# Altium schematic symbol library 1921VK028.SchLib: 1 symbol
Pins are listed as number, name and electrical type; pins without a type are passive.

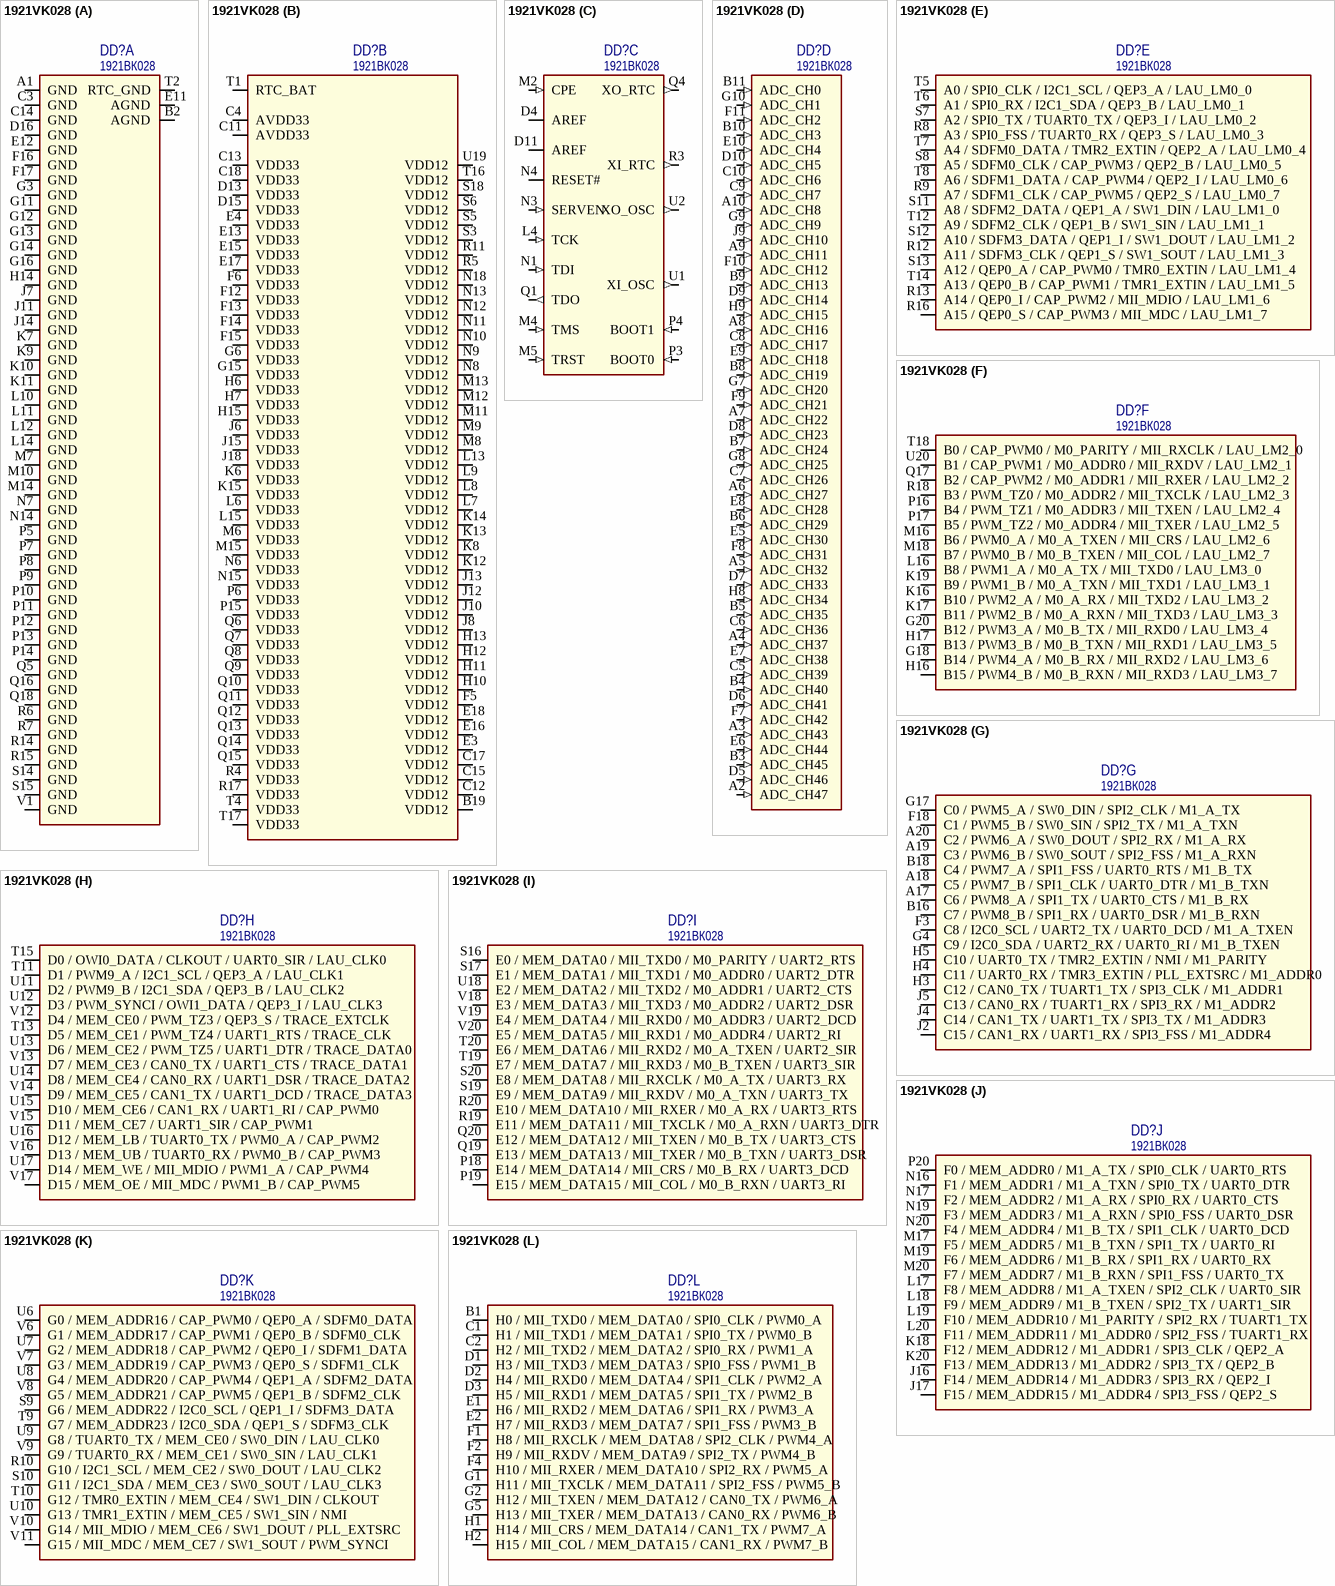
[diagram p0: symbol 1921VK028]

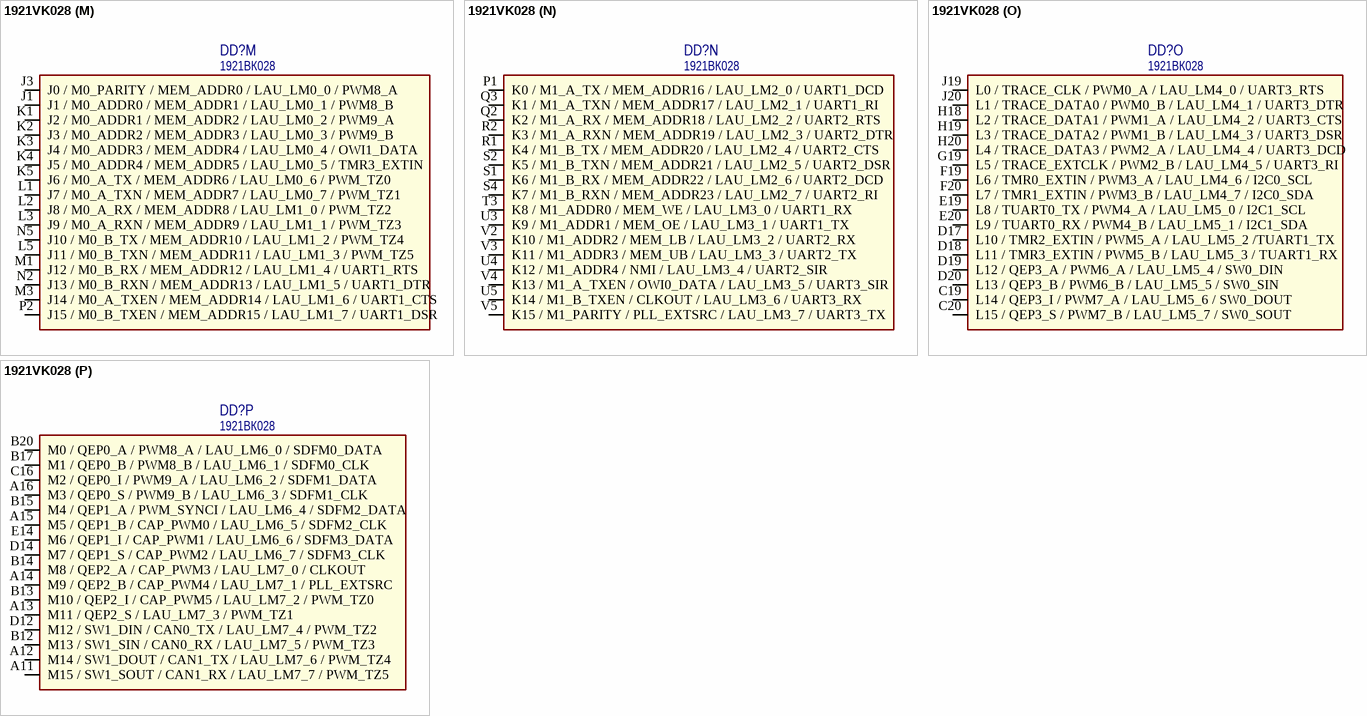
[diagram p1: symbol 1921VK028]

## 1921VK028
designator DD?  Наименование: 1921ВК028  (hidden comment: 1921VK028)
Микроконтроллер; Потребление, Вт: 1.0; Назначение: Микроконтроллер; ComponentLink1Description: Руководство пользователя; ComponentLink1URL: https://niiet.ru/wp-content/uploads/2023/02/РП-1921ВК028.pdf
footprint 8115.400-1
part A pins: A1 GND (power) "Земля", B2 AGND (power) "Аналоговая земля", C3 GND (power) "Земля", C14 GND (power) "Земля", D16 GND (power) "Земля", E11 AGND (power) "Аналоговая земля", E12 GND (power) "Земля", F16 GND (power) "Земля", F17 GND (power) "Земля", G3 GND (power) "Земля", G11 GND (power) "Земля", G12 GND (power) "Земля", G13 GND (power) "Земля", G14 GND (power) "Земля", G16 GND (power) "Земля", H14 GND (power) "Земля", J7 GND (power) "Земля", J11 GND (power) "Земля", J14 GND (power) "Земля", K7 GND (power) "Земля", K9 GND (power) "Земля", K10 GND (power) "Земля", K11 GND (power) "Земля", L10 GND (power) "Земля", L11 GND (power) "Земля", L12 GND (power) "Земля", L14 GND (power) "Земля", M7 GND (power) "Земля", M10 GND (power) "Земля", M14 GND (power) "Земля", N7 GND (power) "Земля", N14 GND (power) "Земля", P5 GND (power) "Земля", P7 GND (power) "Земля", P8 GND (power) "Земля", P9 GND (power) "Земля", P10 GND (power) "Земля", P11 GND (power) "Земля", P12 GND (power) "Земля", P13 GND (power) "Земля", P14 GND (power) "Земля", Q5 GND (power) "Земля", Q16 GND (power) "Земля", Q18 GND (power) "Земля", R6 GND (power) "Земля", R7 GND (power) "Земля", R14 GND (power) "Земля", R15 GND (power) "Земля", S14 GND (power) "Земля", S15 GND (power) "Земля", T2 RTC_GND (power) "Земля RTC", V1 GND (power) "Земля"
part B pins: B19 VDD12 (power) "Питание ядра 1.2В", C4 AVDD33 (power) "Аналоговое питание 3,3 В", C11 AVDD33 (power) "Аналоговое питание 3,3 В", C12 VDD12 (power) "Питание ядра 1.2В", C13 VDD33 (power) "Питание буферов ввода-вывода 3,3В", C15 VDD12 (power) "Питание ядра 1.2В", C17 VDD12 (power) "Питание ядра 1.2В", C18 VDD33 (power) "Питание буферов ввода-вывода 3,3В", D13 VDD33 (power) "Питание буферов ввода-вывода 3,3В", D15 VDD33 (power) "Питание буферов ввода-вывода 3,3В", E3 VDD12 (power) "Питание ядра 1.2В", E4 VDD33 (power) "Питание буферов ввода-вывода 3,3В", E13 VDD33 (power) "Питание буферов ввода-вывода 3,3В", E15 VDD33 (power) "Питание буферов ввода-вывода 3,3В", E16 VDD12 (power) "Питание ядра 1.2В", E17 VDD33 (power) "Питание буферов ввода-вывода 3,3В", E18 VDD12 (power) "Питание ядра 1.2В", F5 VDD12 (power) "Питание ядра 1.2В", F6 VDD33 (power) "Питание буферов ввода-вывода 3,3В", F12 VDD33 (power) "Питание буферов ввода-вывода 3,3В", F13 VDD33 (power) "Питание буферов ввода-вывода 3,3В", F14 VDD33 (power) "Питание буферов ввода-вывода 3,3В", F15 VDD33 (power) "Питание буферов ввода-вывода 3,3В", G6 VDD33 (power) "Питание буферов ввода-вывода 3,3В", G15 VDD33 (power) "Питание буферов ввода-вывода 3,3В", H6 VDD33 (power) "Питание буферов ввода-вывода 3,3В", H7 VDD33 (power) "Питание буферов ввода-вывода 3,3В", H10 VDD12 (power) "Питание ядра 1.2В", H11 VDD12 (power) "Питание ядра 1.2В", H12 VDD12 (power) "Питание ядра 1.2В", H13 VDD12 (power) "Питание ядра 1.2В", H15 VDD33 (power) "Питание буферов ввода-вывода 3,3В", J6 VDD33 (power) "Питание буферов ввода-вывода 3,3В", J8 VDD12 (power) "Питание ядра 1.2В", J10 VDD12 (power) "Питание ядра 1.2В", J12 VDD12 (power) "Питание ядра 1.2В", J13 VDD12 (power) "Питание ядра 1.2В", J15 VDD33 (power) "Питание буферов ввода-вывода 3,3В", J18 VDD33 (power) "Питание буферов ввода-вывода 3,3В", K6 VDD33 (power) "Питание буферов ввода-вывода 3,3В", K8 VDD12 (power) "Питание ядра 1.2В", K12 VDD12 (power) "Питание ядра 1.2В", K13 VDD12 (power) "Питание ядра 1.2В", K14 VDD12 (power) "Питание ядра 1.2В", K15 VDD33 (power) "Питание буферов ввода-вывода 3,3В", L6 VDD33 (power) "Питание буферов ввода-вывода 3,3В", L7 VDD12 (power) "Питание ядра 1.2В", L8 VDD12 (power) "Питание ядра 1.2В", L9 VDD12 (power) "Питание ядра 1.2В", L13 VDD12 (power) "Питание ядра 1.2В", L15 VDD33 (power) "Питание буферов ввода-вывода 3,3В", M6 VDD33 (power) "Питание буферов ввода-вывода 3,3В", M8 VDD12 (power) "Питание ядра 1.2В", M9 VDD12 (power) "Питание ядра 1.2В", M11 VDD12 (power) "Питание ядра 1.2В", M12 VDD12 (power) "Питание ядра 1.2В", M13 VDD12 (power) "Питание ядра 1.2В", M15 VDD33 (power) "Питание буферов ввода-вывода 3,3В", N6 VDD33 (power) "Питание буферов ввода-вывода 3,3В", N8 VDD12 (power) "Питание ядра 1.2В", N9 VDD12 (power) "Питание ядра 1.2В", N10 VDD12 (power) "Питание ядра 1.2В", N11 VDD12 (power) "Питание ядра 1.2В", N12 VDD12 (power) "Питание ядра 1.2В", N13 VDD12 (power) "Питание ядра 1.2В", N15 VDD33 (power) "Питание буферов ввода-вывода 3,3В", N18 VDD12 (power) "Питание ядра 1.2В", P6 VDD33 (power) "Питание буферов ввода-вывода 3,3В", P15 VDD33 (power) "Питание буферов ввода-вывода 3,3В", Q6 VDD33 (power) "Питание буферов ввода-вывода 3,3В", Q7 VDD33 (power) "Питание буферов ввода-вывода 3,3В", Q8 VDD33 (power) "Питание буферов ввода-вывода 3,3В", Q9 VDD33 (power) "Питание буферов ввода-вывода 3,3В", Q10 VDD33 (power) "Питание буферов ввода-вывода 3,3В", Q11 VDD33 (power) "Питание буферов ввода-вывода 3,3В", Q12 VDD33 (power) "Питание буферов ввода-вывода 3,3В", Q13 VDD33 (power) "Питание буферов ввода-вывода 3,3В", Q14 VDD33 (power) "Питание буферов ввода-вывода 3,3В", Q15 VDD33 (power) "Питание буферов ввода-вывода 3,3В", R4 VDD33 (power) "Питание буферов ввода-вывода 3,3В", R5 VDD12 (power) "Питание ядра 1.2В", R11 VDD12 (power) "Питание ядра 1.2В", R17 VDD33 (power) "Питание буферов ввода-вывода 3,3В", S3 VDD12 (power) "Питание ядра 1.2В", S5 VDD12 (power) "Питание ядра 1.2В", S6 VDD12 (power) "Питание ядра 1.2В", S18 VDD12 (power) "Питание ядра 1.2В", T1 RTC_BAT (power) "Батарейное питание RTC", T4 VDD33 (power) "Питание буферов ввода-вывода 3,3В", T16 VDD12 (power) "Питание ядра 1.2В", T17 VDD33 (power) "Питание буферов ввода-вывода 3,3В", U19 VDD12 (power) "Питание ядра 1.2В"
part C pins: D4 AREF (io), D11 AREF (io), L4 TCK (in), M2 CPE (in), M4 TMS (in), M5 TRST (in), N1 TDI (in), N3 SERVEN (in), N4 RESET# (io), P3 BOOT0 (in), P4 BOOT1 (in), Q1 TDO (out), Q4 XO_RTC (out), R3 XI_RTC (out), U1 XI_OSC (out), U2 XO_OSC (out)
part D pins: A2 ADC_CH47 (in) "Вход АЦП3, канал 47", A3 ADC_CH43 (in) "Вход АЦП3, канал 43", A4 ADC_CH37 (in) "Вход АЦП3, канал 37", A5 ADC_CH32 (in) "Вход АЦП2, канал 32", A6 ADC_CH27 (in) "Вход АЦП2, канал 27", A7 ADC_CH22 (in) "Вход АЦП1, канал 22", A8 ADC_CH16 (in) "Вход АЦП1, канал 16", A9 ADC_CH11 (in) "Вход АЦП0, канал 11", A10 ADC_CH8 (in) "Вход АЦП0, канал 8", B3 ADC_CH45 (in) "Вход АЦП3, канал 45", B4 ADC_CH40 (in) "Вход АЦП3, канал 40", B5 ADC_CH35 (in) "Вход АЦП2, канал 35", B6 ADC_CH29 (in) "Вход АЦП2, канал 29", B7 ADC_CH24 (in) "Вход АЦП2, канал 24", B8 ADC_CH19 (in) "Вход АЦП1, канал 19", B9 ADC_CH13 (in) "Вход АЦП1, канал 13", B10 ADC_CH3 (in) "Вход АЦП0, канал 3", B11 ADC_CH0 (in) "Вход АЦП0, канал 0", C5 ADC_CH39 (in) "Вход АЦП3, канал 39", C6 ADC_CH36 (in) "Вход АЦП3, канал 36", C7 ADC_CH26 (in) "Вход АЦП2, канал 26", C8 ADC_CH17 (in) "Вход АЦП1, канал 17", C9 ADC_CH7 (in) "Вход АЦП0, канал 7", C10 ADC_CH6 (in) "Вход АЦП0, канал 6", D5 ADC_CH46 (in) "Вход АЦП3, канал 46", D6 ADC_CH41 (in) "Вход АЦП3, канал 41", D7 ADC_CH33 (in) "Вход АЦП2, канал 33", D8 ADC_CH23 (in) "Вход АЦП1, канал 23", D9 ADC_CH14 (in) "Вход АЦП1, канал 14", D10 ADC_CH5 (in) "Вход АЦП0, канал 5", E5 ADC_CH30 (in) "Вход АЦП2, канал 30", E6 ADC_CH44 (in) "Вход АЦП3, канал 44", E7 ADC_CH38 (in) "Вход АЦП3, канал 38", E8 ADC_CH28 (in) "Вход АЦП2, канал 28", E9 ADC_CH18 (in) "Вход АЦП1, канал 18", E10 ADC_CH4 (in) "Вход АЦП0, канал 4", F7 ADC_CH42 (in) "Вход АЦП3, канал 42", F8 ADC_CH31 (in) "Вход АЦП2, канал 31", F9 ADC_CH21 (in) "Вход АЦП1, канал 21", F10 ADC_CH12 (in) "Вход АЦП1, канал 12", F11 ADC_CH2 (in) "Вход АЦП0, канал 2", G7 ADC_CH20 (in) "Вход АЦП1, канал 20", G8 ADC_CH25 (in) "Вход АЦП2, канал 25", G9 ADC_CH9 (in) "Вход АЦП0, канал 9", G10 ADC_CH1 (in) "Вход АЦП0, канал 1", H8 ADC_CH34 (in) "Вход АЦП2, канал 34", H9 ADC_CH15 (in) "Вход АЦП1, канал 15", J9 ADC_CH10 (in) "Вход АЦП0, канал 10"
part E pins: R8 A3 / SPI0_FSS / TUART0_RX / QEP3_S / LAU_LM0_3 (io), R9 A7 / SDFM1_CLK / CAP_PWM5 / QEP2_S / LAU_LM0_7 (io), R12 A11 / SDFM3_CLK / QEP1_S / SW1_SOUT / LAU_LM1_3 (io), R13 A14 / QEP0_I / CAP_PWM2 / MII_MDIO / LAU_LM1_6 (io), R16 A15 / QEP0_S / CAP_PWM3 / MII_MDC / LAU_LM1_7 (io), S7 A2 / SPI0_TX / TUART0_TX / QEP3_I / LAU_LM0_2 (io), S8 A5 / SDFM0_CLK / CAP_PWM3 / QEP2_B / LAU_LM0_5 (io), S11 A8 / SDFM2_DATA / QEP1_A / SW1_DIN / LAU_LM1_0 (io), S12 A10 / SDFM3_DATA / QEP1_I / SW1_DOUT / LAU_LM1_2 (io), S13 A12 / QEP0_A / CAP_PWM0 / TMR0_EXTIN / LAU_LM1_4 (io), T5 A0 / SPI0_CLK / I2C1_SCL / QEP3_A / LAU_LM0_0 (io), T6 A1 / SPI0_RX / I2C1_SDA / QEP3_B / LAU_LM0_1 (io), T7 A4 / SDFM0_DATA / TMR2_EXTIN / QEP2_A / LAU_LM0_4 (io), T8 A6 / SDFM1_DATA / CAP_PWM4 / QEP2_I / LAU_LM0_6 (io), T12 A9 / SDFM2_CLK / QEP1_B / SW1_SIN / LAU_LM1_1 (io), T14 A13 / QEP0_B / CAP_PWM1 / TMR1_EXTIN / LAU_LM1_5 (io)
part F pins: G18 B14 / PWM4_A / M0_B_RX / MII_RXD2 / LAU_LM3_6 (io), G20 B12 / PWM3_A / M0_B_TX / MII_RXD0 / LAU_LM3_4 (io), H16 B15 / PWM4_B / M0_B_RXN / MII_RXD3 / LAU_LM3_7 (io), H17 B13 / PWM3_B / M0_B_TXN / MII_RXD1 / LAU_LM3_5 (io), K16 B10 / PWM2_A / M0_A_RX / MII_TXD2 / LAU_LM3_2 (io), K17 B11 / PWM2_B / M0_A_RXN / MII_TXD3 / LAU_LM3_3 (io), K19 B9 / PWM1_B / M0_A_TXN / MII_TXD1 / LAU_LM3_1 (io), L16 B8 / PWM1_A / M0_A_TX / MII_TXD0 / LAU_LM3_0 (io), M16 B6 / PWM0_A / M0_A_TXEN / MII_CRS / LAU_LM2_6 (io), M18 B7 / PWM0_B / M0_B_TXEN / MII_COL / LAU_LM2_7 (io), P16 B4 / PWM_TZ1 / M0_ADDR3 / MII_TXEN / LAU_LM2_4 (io), P17 B5 / PWM_TZ2 / M0_ADDR4 / MII_TXER / LAU_LM2_5 (io), Q17 B2 / CAP_PWM2 / M0_ADDR1 / MII_RXER / LAU_LM2_2 (io), R18 B3 / PWM_TZ0 / M0_ADDR2 / MII_TXCLK / LAU_LM2_3 (io), T18 B0 / CAP_PWM0 / M0_PARITY / MII_RXCLK / LAU_LM2_0 (io), U20 B1 / CAP_PWM1 / M0_ADDR0 / MII_RXDV / LAU_LM2_1 (io)
part G pins: A17 C6 / PWM8_A / SPI1_TX / UART0_CTS / M1_B_RX (io), A18 C5 / PWM7_B / SPI1_CLK / UART0_DTR / M1_B_TXN (io), A19 C3 / PWM6_B / SW0_SOUT / SPI2_FSS / M1_A_RXN (io), A20 C2 / PWM6_A / SW0_DOUT / SPI2_RX / M1_A_RX (io), B16 C7 / PWM8_B / SPI1_RX / UART0_DSR / M1_B_RXN (io), B18 C4 / PWM7_A / SPI1_FSS / UART0_RTS / M1_B_TX (io), F3 C8 / I2C0_SCL / UART2_TX / UART0_DCD / M1_A_TXEN (io), F18 C1 / PWM5_B / SW0_SIN / SPI2_TX / M1_A_TXN (io), G4 C9 / I2C0_SDA / UART2_RX / UART0_RI / M1_B_TXEN (io), G17 C0 / PWM5_A / SW0_DIN / SPI2_CLK / M1_A_TX (io), H3 C12 / CAN0_TX / TUART1_TX / SPI3_CLK / M1_ADDR1 (io), H4 C11 / UART0_RX / TMR3_EXTIN / PLL_EXTSRC / M1_ADDR0 (io), H5 C10 / UART0_TX / TMR2_EXTIN / NMI / M1_PARITY (io), J2 C15 / CAN1_RX / UART1_RX / SPI3_FSS / M1_ADDR4 (io), J4 C14 / CAN1_TX / UART1_TX / SPI3_TX / M1_ADDR3 (io), J5 C13 / CAN0_RX / TUART1_RX / SPI3_RX / M1_ADDR2 (io)
part H pins: T11 D1 / PWM9_A / I2C1_SCL / QEP3_A / LAU_CLK1 (io), T13 D5 / MEM_CE1 / PWM_TZ4 / UART1_RTS / TRACE_CLK (io), T15 D0 / OWI0_DATA / CLKOUT / UART0_SIR / LAU_CLK0 (io), U11 D2 / PWM9_B / I2C1_SDA / QEP3_B / LAU_CLK2 (io), U12 D3 / PWM_SYNCI / OWI1_DATA / QEP3_I / LAU_CLK3 (io), U13 D6 / MEM_CE2 / PWM_TZ5 / UART1_DTR / TRACE_DATA0 (io), U14 D8 / MEM_CE4 / CAN0_RX / UART1_DSR / TRACE_DATA2 (io), U15 D10 / MEM_CE6 / CAN1_RX / UART1_RI / CAP_PWM0 (io), U16 D12 / MEM_LB / TUART0_TX / PWM0_A / CAP_PWM2 (io), U17 D14 / MEM_WE / MII_MDIO / PWM1_A / CAP_PWM4 (io), V12 D4 / MEM_CE0 / PWM_TZ3 / QEP3_S / TRACE_EXTCLK (io), V13 D7 / MEM_CE3 / CAN0_TX / UART1_CTS / TRACE_DATA1 (io), V14 D9 / MEM_CE5 / CAN1_TX / UART1_DCD / TRACE_DATA3 (io), V15 D11 / MEM_CE7 / UART1_SIR / CAP_PWM1 (io), V16 D13 / MEM_UB / TUART0_RX / PWM0_B / CAP_PWM3 (io), V17 D15 / MEM_OE / MII_MDC / PWM1_B / CAP_PWM5 (io)
part I pins: P18 E14 / MEM_DATA14 / MII_CRS / M0_B_RX / UART3_DCD (io), P19 E15 / MEM_DATA15 / MII_COL / M0_B_RXN / UART3_RI (io), Q19 E13 / MEM_DATA13 / MII_TXER / M0_B_TXN / UART3_DSR (io), Q20 E12 / MEM_DATA12 / MII_TXEN / M0_B_TX / UART3_CTS (io), R19 E11 / MEM_DATA11 / MII_TXCLK / M0_A_RXN / UART3_DTR (io), R20 E10 / MEM_DATA10 / MII_RXER / M0_A_RX / UART3_RTS (io), S16 E0 / MEM_DATA0 / MII_TXD0 / M0_PARITY / UART2_RTS (io), S17 E1 / MEM_DATA1 / MII_TXD1 / M0_ADDR0 / UART2_DTR (io), S19 E9 / MEM_DATA9 / MII_RXDV / M0_A_TXN / UART3_TX (io), S20 E8 / MEM_DATA8 / MII_RXCLK / M0_A_TX / UART3_RX (io), T19 E7 / MEM_DATA7 / MII_RXD3 / M0_B_TXEN / UART3_SIR (io), T20 E6 / MEM_DATA6 / MII_RXD2 / M0_A_TXEN / UART2_SIR (io), U18 E2 / MEM_DATA2 / MII_TXD2 / M0_ADDR1 / UART2_CTS (io), V18 E3 / MEM_DATA3 / MII_TXD3 / M0_ADDR2 / UART2_DSR (io), V19 E4 / MEM_DATA4 / MII_RXD0 / M0_ADDR3 / UART2_DCD (io), V20 E5 / MEM_DATA5 / MII_RXD1 / M0_ADDR4 / UART2_RI (io)
part J pins: J16 F14 / MEM_ADDR14 / M1_ADDR3 / SPI3_RX / QEP2_I (io), J17 F15 / MEM_ADDR15 / M1_ADDR4 / SPI3_FSS / QEP2_S (io), K18 F12 / MEM_ADDR12 / M1_ADDR1 / SPI3_CLK / QEP2_A (io), K20 F13 / MEM_ADDR13 / M1_ADDR2 / SPI3_TX / QEP2_B (io), L17 F8 / MEM_ADDR8 / M1_A_TXEN / SPI2_CLK / UART0_SIR (io), L18 F9 / MEM_ADDR9 / M1_B_TXEN / SPI2_TX / UART1_SIR (io), L19 F10 / MEM_ADDR10 / M1_PARITY / SPI2_RX / TUART1_TX (io), L20 F11 / MEM_ADDR11 / M1_ADDR0 / SPI2_FSS / TUART1_RX (io), M17 F5 / MEM_ADDR5 / M1_B_TXN / SPI1_TX / UART0_RI (io), M19 F6 / MEM_ADDR6 / M1_B_RX / SPI1_RX / UART0_RX (io), M20 F7 / MEM_ADDR7 / M1_B_RXN / SPI1_FSS / UART0_TX (io), N16 F1 / MEM_ADDR1 / M1_A_TXN / SPI0_TX / UART0_DTR (io), N17 F2 / MEM_ADDR2 / M1_A_RX / SPI0_RX / UART0_CTS (io), N19 F3 / MEM_ADDR3 / M1_A_RXN / SPI0_FSS / UART0_DSR (io), N20 F4 / MEM_ADDR4 / M1_B_TX / SPI1_CLK / UART0_DCD (io), P20 F0 / MEM_ADDR0 / M1_A_TX / SPI0_CLK / UART0_RTS (io)
part K pins: R10 G10 / I2C1_SCL / MEM_CE2 / SW0_DOUT / LAU_CLK2 (io), S9 G6 / MEM_ADDR22 / I2C0_SCL / QEP1_I / SDFM3_DATA (io), S10 G11 / I2C1_SDA / MEM_CE3 / SW0_SOUT / LAU_CLK3 (io), T9 G7 / MEM_ADDR23 / I2C0_SDA / QEP1_S / SDFM3_CLK (io), T10 G12 / TMR0_EXTIN / MEM_CE4 / SW1_DIN / CLKOUT (io), U6 G0 / MEM_ADDR16 / CAP_PWM0 / QEP0_A / SDFM0_DATA (io), U7 G2 / MEM_ADDR18 / CAP_PWM2 / QEP0_I / SDFM1_DATA (io), U8 G4 / MEM_ADDR20 / CAP_PWM4 / QEP1_A / SDFM2_DATA (io), U9 G8 / TUART0_TX / MEM_CE0 / SW0_DIN / LAU_CLK0 (io), U10 G13 / TMR1_EXTIN / MEM_CE5 / SW1_SIN / NMI (io), V6 G1 / MEM_ADDR17 / CAP_PWM1 / QEP0_B / SDFM0_CLK (io), V7 G3 / MEM_ADDR19 / CAP_PWM3 / QEP0_S / SDFM1_CLK (io), V8 G5 / MEM_ADDR21 / CAP_PWM5 / QEP1_B / SDFM2_CLK (io), V9 G9 / TUART0_RX / MEM_CE1 / SW0_SIN / LAU_CLK1 (io), V10 G14 / MII_MDIO / MEM_CE6 / SW1_DOUT / PLL_EXTSRC (io), V11 G15 / MII_MDC / MEM_CE7 / SW1_SOUT / PWM_SYNCI (io)
part L pins: B1 H0 / MII_TXD0 / MEM_DATA0 / SPI0_CLK / PWM0_A (io), C1 H1 / MII_TXD1 / MEM_DATA1 / SPI0_TX / PWM0_B (io), C2 H2 / MII_TXD2 / MEM_DATA2 / SPI0_RX / PWM1_A (io), D1 H3 / MII_TXD3 / MEM_DATA3 / SPI0_FSS / PWM1_B (io), D2 H4 / MII_RXD0 / MEM_DATA4 / SPI1_CLK / PWM2_A (io), D3 H5 / MII_RXD1 / MEM_DATA5 / SPI1_TX / PWM2_B (io), E1 H6 / MII_RXD2 / MEM_DATA6 / SPI1_RX / PWM3_A (io), E2 H7 / MII_RXD3 / MEM_DATA7 / SPI1_FSS / PWM3_B (io), F1 H8 / MII_RXCLK / MEM_DATA8 / SPI2_CLK / PWM4_A (io), F2 H9 / MII_RXDV / MEM_DATA9 / SPI2_TX / PWM4_B (io), F4 H10 / MII_RXER / MEM_DATA10 / SPI2_RX / PWM5_A (io), G1 H11 / MII_TXCLK / MEM_DATA11 / SPI2_FSS / PWM5_B (io), G2 H12 / MII_TXEN / MEM_DATA12 / CAN0_TX / PWM6_A (io), G5 H13 / MII_TXER / MEM_DATA13 / CAN0_RX / PWM6_B (io), H1 H14 / MII_CRS / MEM_DATA14 / CAN1_TX / PWM7_A (io), H2 H15 / MII_COL / MEM_DATA15 / CAN1_RX / PWM7_B (io)
part M pins: J1 J1 / M0_ADDR0 / MEM_ADDR1 / LAU_LM0_1 / PWM8_B (io), J3 J0 / M0_PARITY / MEM_ADDR0 / LAU_LM0_0 / PWM8_A (io), K1 J2 / M0_ADDR1 / MEM_ADDR2 / LAU_LM0_2 / PWM9_A (io), K2 J3 / M0_ADDR2 / MEM_ADDR3 / LAU_LM0_3 / PWM9_B (io), K3 J4 / M0_ADDR3 / MEM_ADDR4 / LAU_LM0_4 / OWI1_DATA (io), K4 J5 / M0_ADDR4 / MEM_ADDR5 / LAU_LM0_5 / TMR3_EXTIN (io), K5 J6 / M0_A_TX / MEM_ADDR6 / LAU_LM0_6 / PWM_TZ0 (io), L1 J7 / M0_A_TXN / MEM_ADDR7 / LAU_LM0_7 / PWM_TZ1 (io), L2 J8 / M0_A_RX / MEM_ADDR8 / LAU_LM1_0 / PWM_TZ2 (io), L3 J9 / M0_A_RXN / MEM_ADDR9 / LAU_LM1_1 / PWM_TZ3 (io), L5 J11 / M0_B_TXN / MEM_ADDR11 / LAU_LM1_3 / PWM_TZ5 (io), M1 J12 / M0_B_RX / MEM_ADDR12 / LAU_LM1_4 / UART1_RTS (io), M3 J14 / M0_A_TXEN / MEM_ADDR14 / LAU_LM1_6 / UART1_CTS (io), N2 J13 / M0_B_RXN / MEM_ADDR13 / LAU_LM1_5 / UART1_DTR (io), N5 J10 / M0_B_TX / MEM_ADDR10 / LAU_LM1_2 / PWM_TZ4 (io), P2 J15 / M0_B_TXEN / MEM_ADDR15 / LAU_LM1_7 / UART1_DSR (io)
part N pins: P1 K0 / M1_A_TX / MEM_ADDR16 / LAU_LM2_0 / UART1_DCD (io), Q2 K2 / M1_A_RX / MEM_ADDR18 / LAU_LM2_2 / UART2_RTS (io), Q3 K1 / M1_A_TXN / MEM_ADDR17 / LAU_LM2_1 / UART1_RI (io), R1 K4 / M1_B_TX / MEM_ADDR20 / LAU_LM2_4 / UART2_CTS (io), R2 K3 / M1_A_RXN / MEM_ADDR19 / LAU_LM2_3 / UART2_DTR (io), S1 K6 / M1_B_RX / MEM_ADDR22 / LAU_LM2_6 / UART2_DCD (io), S2 K5 / M1_B_TXN / MEM_ADDR21 / LAU_LM2_5 / UART2_DSR (io), S4 K7 / M1_B_RXN / MEM_ADDR23 / LAU_LM2_7 / UART2_RI (io), T3 K8 / M1_ADDR0 / MEM_WE / LAU_LM3_0 / UART1_RX (io), U3 K9 / M1_ADDR1 / MEM_OE / LAU_LM3_1 / UART1_TX (io), U4 K12 / M1_ADDR4 / NMI / LAU_LM3_4 / UART2_SIR (io), U5 K14 / M1_B_TXEN / CLKOUT / LAU_LM3_6 / UART3_RX (io), V2 K10 / M1_ADDR2 / MEM_LB / LAU_LM3_2 / UART2_RX (io), V3 K11 / M1_ADDR3 / MEM_UB / LAU_LM3_3 / UART2_TX (io), V4 K13 / M1_A_TXEN / OWI0_DATA / LAU_LM3_5 / UART3_SIR (io), V5 K15 / M1_PARITY / PLL_EXTSRC / LAU_LM3_7 / UART3_TX (io)
part O pins: C19 L14 / QEP3_I / PWM7_A / LAU_LM5_6 / SW0_DOUT (io), C20 L15 / QEP3_S / PWM7_B / LAU_LM5_7 / SW0_SOUT (io), D17 L10 / TMR2_EXTIN / PWM5_A / LAU_LM5_2 /TUART1_TX (io), D18 L11 / TMR3_EXTIN / PWM5_B / LAU_LM5_3 / TUART1_RX (io), D19 L12 / QEP3_A / PWM6_A / LAU_LM5_4 / SW0_DIN (io), D20 L13 / QEP3_B / PWM6_B / LAU_LM5_5 / SW0_SIN (io), E19 L8 / TUART0_TX / PWM4_A / LAU_LM5_0 / I2C1_SCL (io), E20 L9 / TUART0_RX / PWM4_B / LAU_LM5_1 / I2C1_SDA (io), F19 L6 / TMR0_EXTIN / PWM3_A / LAU_LM4_6 / I2C0_SCL (io), F20 L7 / TMR1_EXTIN / PWM3_B / LAU_LM4_7 / I2C0_SDA (io), G19 L5 / TRACE_EXTCLK / PWM2_B / LAU_LM4_5 / UART3_RI (io), H18 L2 / TRACE_DATA1 / PWM1_A / LAU_LM4_2 / UART3_CTS (io), H19 L3 / TRACE_DATA2 / PWM1_B / LAU_LM4_3 / UART3_DSR (io), H20 L4 / TRACE_DATA3 / PWM2_A / LAU_LM4_4 / UART3_DCD (io), J19 L0 / TRACE_CLK / PWM0_A / LAU_LM4_0 / UART3_RTS (io), J20 L1 / TRACE_DATA0 / PWM0_B / LAU_LM4_1 / UART3_DTR (io)
part P pins: A11 M15 / SW1_SOUT / CAN1_RX / LAU_LM7_7 / PWM_TZ5 (io), A12 M14 / SW1_DOUT / CAN1_TX / LAU_LM7_6 / PWM_TZ4 (io), A13 M11 / QEP2_S / LAU_LM7_3 / PWM_TZ1 (io), A14 M9 / QEP2_B / CAP_PWM4 / LAU_LM7_1 / PLL_EXTSRC (io), A15 M5 / QEP1_B / CAP_PWM0 / LAU_LM6_5 / SDFM2_CLK (io), A16 M3 / QEP0_S / PWM9_B / LAU_LM6_3 / SDFM1_CLK (io), B12 M13 / SW1_SIN / CAN0_RX / LAU_LM7_5 / PWM_TZ3 (io), B13 M10 / QEP2_I / CAP_PWM5 / LAU_LM7_2 / PWM_TZ0 (io), B14 M8 / QEP2_A / CAP_PWM3 / LAU_LM7_0 / CLKOUT (io), B15 M4 / QEP1_A / PWM_SYNCI / LAU_LM6_4 / SDFM2_DATA (io), B17 M1 / QEP0_B / PWM8_B / LAU_LM6_1 / SDFM0_CLK (io), B20 M0 / QEP0_A / PWM8_A / LAU_LM6_0 / SDFM0_DATA (io), C16 M2 / QEP0_I / PWM9_A / LAU_LM6_2 / SDFM1_DATA (io), D12 M12 / SW1_DIN / CAN0_TX / LAU_LM7_4 / PWM_TZ2 (io), D14 M7 / QEP1_S / CAP_PWM2 / LAU_LM6_7 / SDFM3_CLK (io), E14 M6 / QEP1_I / CAP_PWM1 / LAU_LM6_6 / SDFM3_DATA (io)